# EAGLE library part 615108137421R (library Wurth_Connectors_WR-MJ)
WR-MJ Modular Jack THR Horizontal Shielded w. LED and EMI Finger 8P8C Tab Up Kind Properties Quality Class:750 Mating cycles LED:yellow-green General Information Operating Temperature:-40 up to +85 °C Compliance:Lead free / RoHS Electrical Properties IR1:1.5A Working Voltage: 125 V (AC) Withstanding Voltage:1000 V (AC) Contact Resistance:30mΩ RISO:1000 MΩ Material Properties Insulator MateriaL:PA9T Insulator Flammability Rating:UL94 V-0 Color:Black Contact Material:Copper Alloy Contact Plating: Selective Gold Contact Type:Stamped Shielding Materia:Brass Shielding Plating:Nickel Packaging Properties Packaging:Tape and Reel Qty. 100 <https://www.we-online.com/catalog/media/o107344v209%20Family_WR-MJ_615108137421R.jpg> Details see: https://www.we-online.com/catalog/en/MJ_HORIZONTAL_SHIELDED_W_LED_AND_EMI_FINGER_THR_8P8C_TAB_UP/ Updated by Yingchun,Shan 2020-01-03 2020 (C) Würth Elektronik
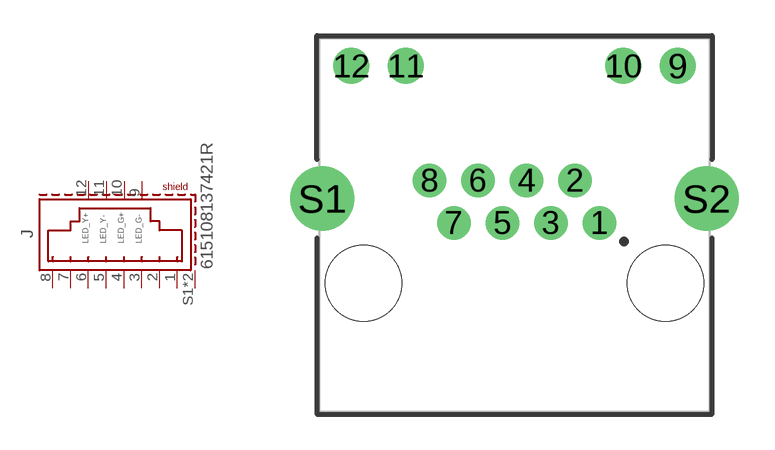
[diagram p71: symbol with the pads of 615108137421R; footprint 615108137421R]

Designator prefix J

## 615108137421R (DATASHEET-URL: https://www.we-online.com/redexpert/spec/615108137421R?ae; LED: yellow-green; MOUNT: THR; PART-NUMBER: 615108137421R; TYPE: Horizontal; VALUE: 615108137421R; XPXC: 8P8C)  [615108137421R]
1  1  pas
2  2  pas
3  3  pas
4  4  pas
5  5  pas
6  6  pas
7  7  pas
8  8  pas
9  G-  pas
10  G+  pas
11  Y-  pas
12  Y+  pas
S1  SHIELD  pas
S2  SHIELD  pas

## Footprint 615108137421R (pad centres in mm)
WR-MJ Modular Jack THR Horizontal Shielded w. LED and EMI Finger 8P8C Tab Up
drill 0.9: 1 3.57,0.09; 2 2.55,1.87; 3 1.53,0.09; 4 0.51,1.87; 5 -0.51,0.09; 6 -1.53,1.87; 7 -2.55,0.09; 8 -3.57,1.87
drill 1: 9 6.86,6.68; 10 4.57,6.68; 11 -4.57,6.68; 12 -6.86,6.68
drill 1.8: S1 -8.075,1.11; S2 8.075,1.11
hole 3.2 at -6.35,-2.45
hole 3.2 at 6.35,-2.45